# EAGLE library part ADS1246IPWR (library ADS1246)
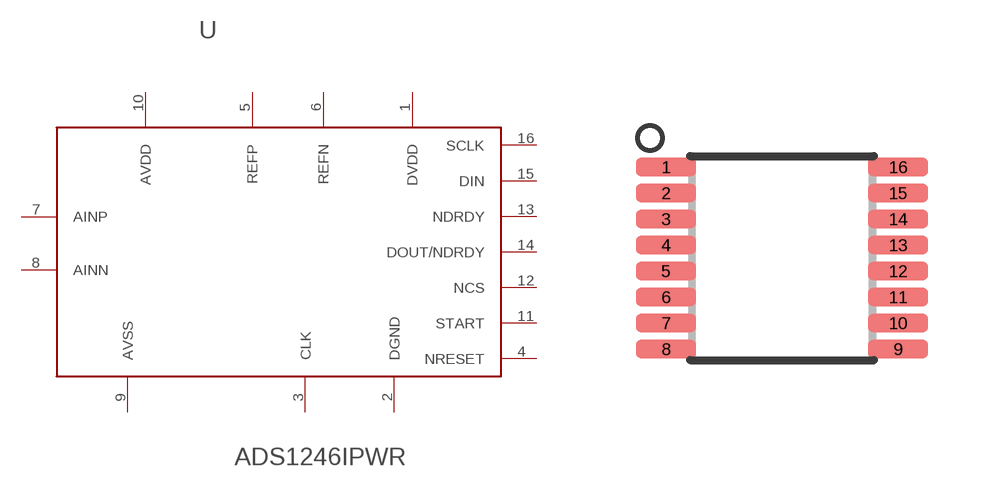
[diagram p0: symbol with the pads of ADS1246IPWR; footprint ADS1246IPWR]

Designator prefix U

## ADS1246IPWR  [ADS1246IPWR]
1  DVDD  pwr
2  DGND
3  CLK  in
4  NRESET  in
5  REFP  in
6  REFN  in
7  AINP  in
8  AINN  in
9  AVSS  pwr
10  AVDD  pwr
11  START  in
12  NCS  in
13  NDRDY  out
14  DOUT/NDRDY  out
15  DIN  in
16  SCLK  in

## Footprint ADS1246IPWR (pad centres in mm)
smd 1.5 x 0.45: 1 -2.9,2.275; 2 -2.9,1.625; 3 -2.9,0.975; 4 -2.9,0.325; 5 -2.9,-0.325; 6 -2.9,-0.975; 7 -2.9,-1.625; 8 -2.9,-2.275; 9 2.9,-2.275; 10 2.9,-1.625; 11 2.9,-0.975; 12 2.9,-0.325; 13 2.9,0.325; 14 2.9,0.975; 15 2.9,1.625; 16 2.9,2.275